# EAGLE library part L78L06ACD13TR (library L78L06ACD13TR)
L78L06ACD13TR, Voltage Regulator, 0.1A 6 V, +/-5%, 8-Pin, SOIC Source: Datasheet <http://www.st.com/st-web-ui/static/active/en/resource/technical/document/datasheet/CD00000446.pdf>
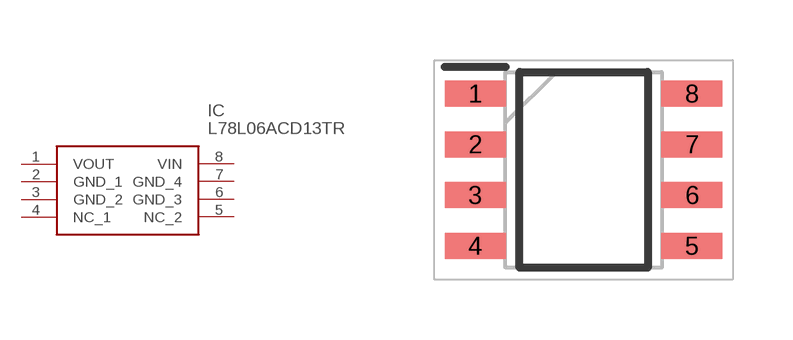
[diagram p0: symbol with the pads of SOIC127P600X175-8N; footprint SOIC127P600X175-8N]

Designator prefix IC

## L78L06ACD13TR (Description: L78L06ACD13TR, Voltage Regulator, 0.1A 6 V, +/-5%, 8-Pin, SOIC; Height: 1.75mm; Manufacturer_Name: STMicroelectronics; Manufacturer_Part_Number: L78L06ACD13TR; Mouser_Part_Number: 511-L78L06ACD-TR; Mouser_Price-Stock: https://www.mouser.co.uk/ProductDetail/STMicroelectronics/L78L06ACD13TR?qs=nGCvt7cgQioRPwLhgxb%2FbQ%3D%3D)  [SOIC127P600X175-8N]
1  VOUT
2  GND_1
3  GND_2
4  NC_1
5  NC_2
6  GND_3
7  GND_4
8  VIN

## Footprint SOIC127P600X175-8N (pad centres in mm)
SO-8-2020
smd 1.525 x 0.65: 1 -2.712,1.905; 2 -2.712,0.635; 3 -2.712,-0.635; 4 -2.712,-1.905; 5 2.712,-1.905; 6 2.712,-0.635; 7 2.712,0.635; 8 2.712,1.905